# EAGLE library part QFN-20-4X4 (library SMD_Qualifier)
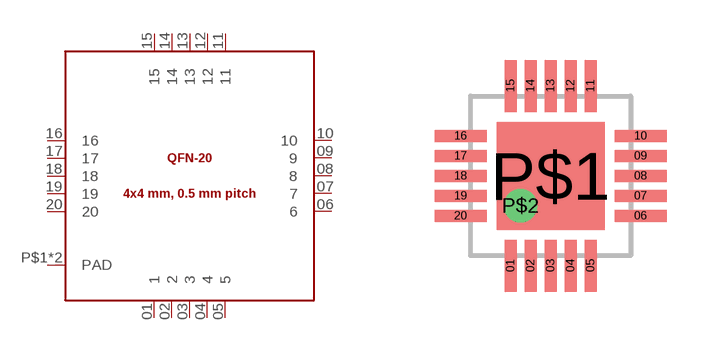
[diagram p6: symbol with the pads of QFN-20-4X4; footprint QFN-20-4X4]

Designator prefix -

## QFN-20-4X4  [QFN-20-4X4]
01  1
02  2
03  3
04  4
05  5
06  6
07  7
08  8
09  9
10  10
11  11
12  12
13  13
14  14
15  15
16  16
17  17
18  18  in
19  19  in
20  20  in
P$1  PAD
P$2  PAD

## Footprint QFN-20-4X4 (pad centres in mm)
smd 0.3 x 1.3: 01 -1,-2.25; 02 -0.5,-2.25; 03 0,-2.25; 04 0.5,-2.25; 05 1,-2.25; 11 1,2.25; 12 0.5,2.25; 13 0,2.25; 14 -0.5,2.25; 15 -1,2.25
smd 1.3 x 0.3: 06 2.25,-1; 07 2.25,-0.5; 08 2.25,0; 09 2.25,0.5; 10 2.25,1; 16 -2.25,1; 17 -2.25,0.5; 18 -2.25,0; 19 -2.25,-0.5; 20 -2.25,-1
smd 2.7 x 2.7: P$1 0,0
drill 0.33 pad 0.66: P$2 -0.75,-0.75